# Altium footprint library STxx3N150 Family.PcbLib: 1 footprints
Each footprint in its own frame and in the unit in brackets; x right, y up, seen from the top. Pads: shape width x height; smd on the part's side, far side on the other; paste and mask are expansions set on the pad; w line width, h text height; cw(c..) or ccw(c..) is an arc to the next point about the centre after c.
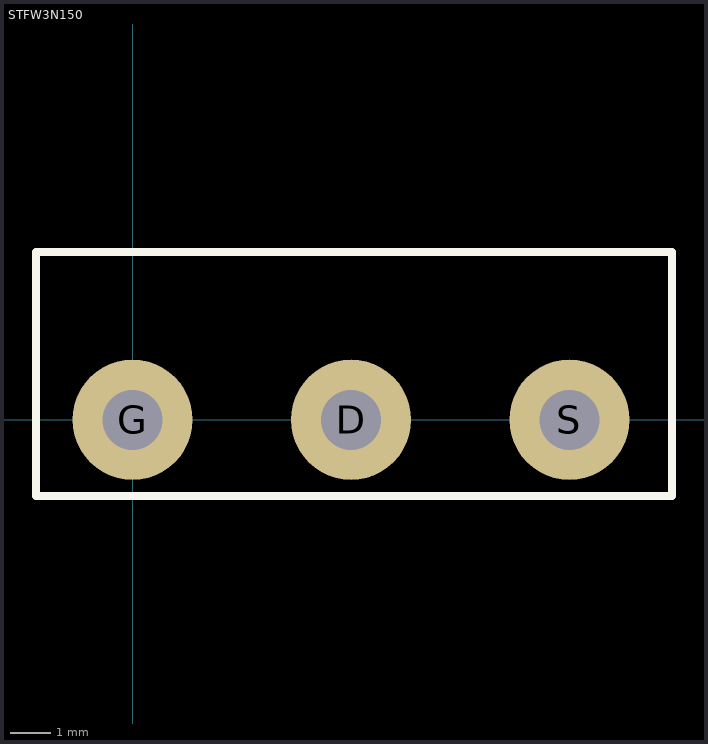
[diagram p0: the footprint, top view; thin cyan lines are the x and y axes]

## STFW3N150 [mm] "N-Channel 1500V 2.5A (Tc) 63W (Tc) Through Hole ISOWATT-218FX"
pads (3):
  round 3 hole 1.5: D(5.45,0) G(0,0) S(10.9,0)
Top Overlay:
  lines w0.2: -2.413,-1.905 -2.413,4.191 13.462,4.191 13.462,-1.905 -2.413,-1.905
3D body "TO3PF.step": height 36.91, standoff -6.89, extent -2.31,-1.69 13.288,4.01